# EAGLE library part 20021111-00010T4LF (library 20021111-00010T4LF)
1.27x1.27MM BTB, HEADER UNSHROUDED, VERTICAL, TH, 10 POSITIONS£¬Double row
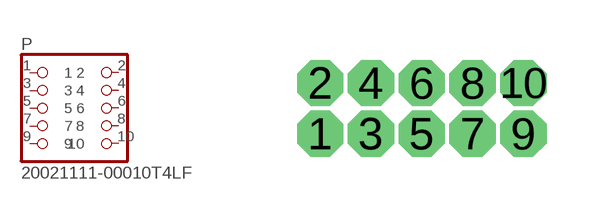
[diagram p0: symbol with the pads of FCI_20021111-00010T4LF; footprint FCI_20021111-00010T4LF]

Designator prefix P

## 20021111-00010T4LF (Description: Board-Board Connector, Header, 10 Position, 2row; Digi-Key_Part_Number: 609-3712-ND; Digi-Key_Purchase_URL: https://www.digikey.com/product-detail/en/amphenol-icc-fci/20021111-00010T4LF/609-3712-ND/2209072?utm_source=snapeda&utm_medium=aggregator&utm_campaign=symbol; MF: Amphenol ICC; MP: 20021111-00010T4LF; Package: None)  [FCI_20021111-00010T4LF]
1  1  pas
2  2  pas
3  3  pas
4  4  pas
5  5  pas
6  6  pas
7  7  pas
8  8  pas
9  9  pas
10  10  pas

## Footprint FCI_20021111-00010T4LF (pad centres in mm)
drill 0.65 octagon: 1 -2.54,-0.635; 2 -2.54,0.635; 3 -1.27,-0.635; 4 -1.27,0.635; 5 0,-0.635; 6 0,0.635; 7 1.27,-0.635; 8 1.27,0.635; 9 2.54,-0.635; 10 2.54,0.635